# EAGLE library part AUDIO-JACK-6P-SMD(ST-PJ-312) (library _openSX70)
320040007
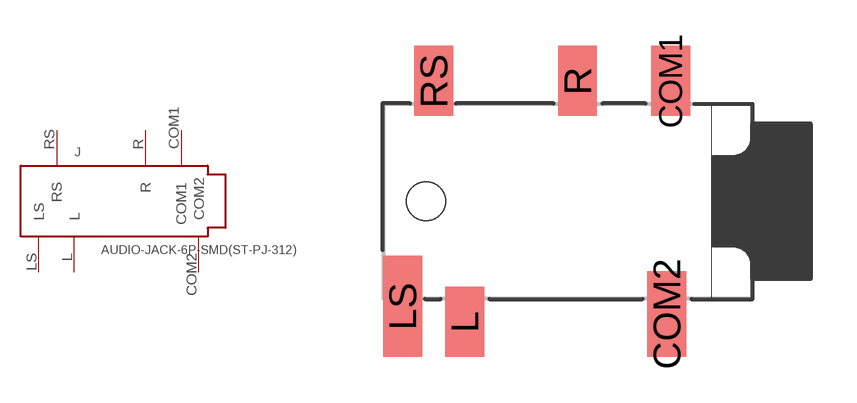
[diagram p9: symbol with the pads of AUDIO6P-SMD-3.5-14.0X6.4X5.0MM; footprint AUDIO6P-SMD-3.5-14.0X6.4X5.0MM]

Designator prefix J

## AUDIO-JACK-6P-SMD(ST-PJ-312) (MPN: ST-PJ-312; VALUE: ST-PJ-312)  [AUDIO6P-SMD-3.5-14.0X6.4X5.0MM]
COM1  COM1
COM2  COM2
L  L
LS  LS
R  R
RS  RS

## Footprint AUDIO6P-SMD-3.5-14.0X6.4X5.0MM (pad centres in mm)
smd 1.27 x 2.286: COM1 -4.572,3.937; L -11.303,-3.937; R -7.62,3.937; RS -12.319,3.937
smd 1.27 x 2.794: COM2 -4.699,-3.683
smd 1.27 x 3.302: LS -13.335,-3.429
hole 1.27 at -12.573,0